# Altium footprint library Custom library.PcbLib: 80 footprints (part 2 of 5)
Each footprint in its own frame and in the unit in brackets; x right, y up, seen from the top. Pads: shape width x height; smd on the part's side, far side on the other; paste and mask are expansions set on the pad; w line width, h text height; cw(c..) or ccw(c..) is an arc to the next point about the centre after c.
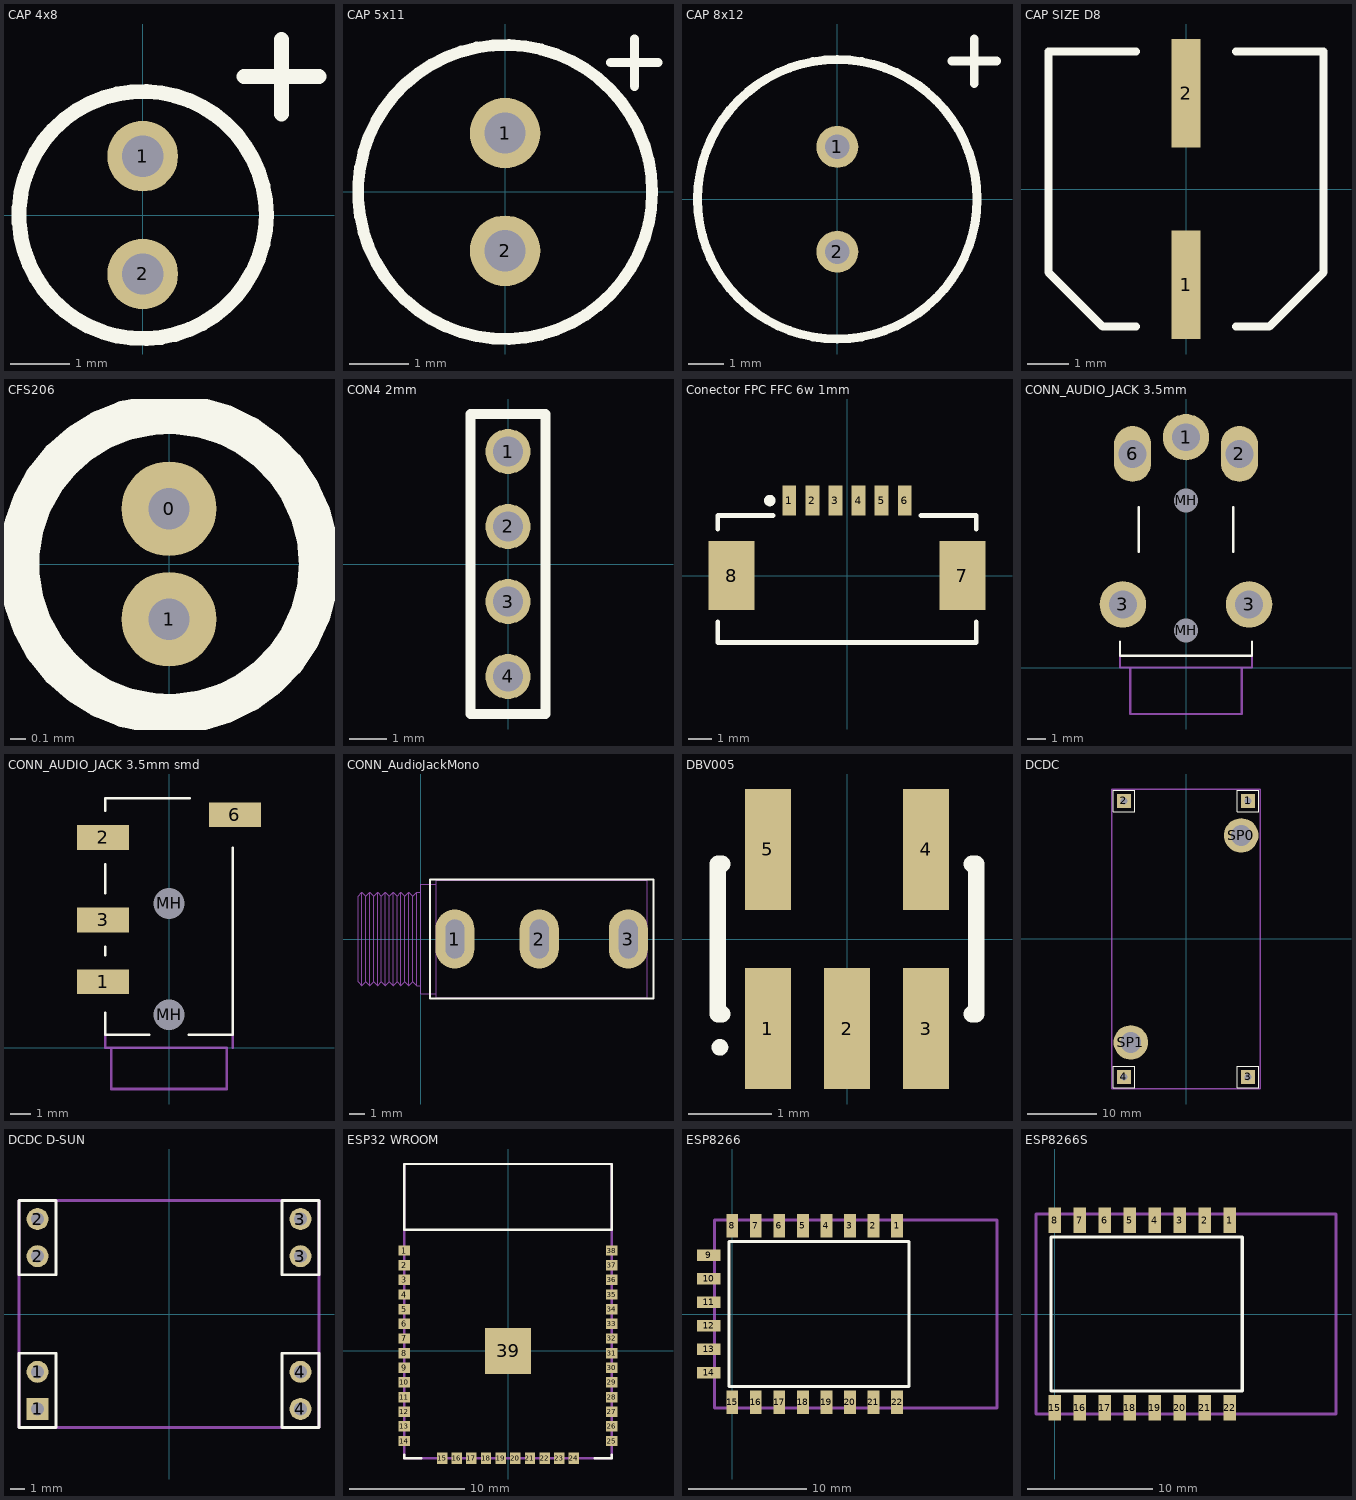
[diagram p1: the footprints below, top view; thin cyan lines are the x and y axes]

## CAP 4x8 [mm] "ECAP P2"
pads (2):
  round 1.2 hole 0.7: 1(0,1) 2(0,-1)
Top Overlay:
  circle w0.254: c0,0 r2.1
  lines w0.254: 1.725,2.35 2.995,2.35 ; 2.36,1.715 2.36,2.985
3D body: height 8, standoff 0, extent -2.083,-2.096 2.1,2.096

## CAP 5x11 [mm] "ECAP P2"
pads (2):
  round 1.2 hole 0.7: 1(0,1) 2(0,-1)
Top Overlay:
  circle w0.2: c0,0 r2.5
  lines w0.16: 1.8,2.2 2.6,2.2 ; 2.2,1.8 2.2,2.6
3D body: height 12, standoff 0, extent -2.48,-2.495 2.5,2.495

## CAP 8x12 [mm] "ECAP P3"
pads (2):
  round 1.2 hole 0.7: 1(0,1.5) 2(0,-1.5)
Top Overlay:
  circle w0.254: c0,0 r4
  lines w0.254: 3.285,3.953 4.555,3.953 ; 3.92,3.318 3.92,4.588
3D body: height 12.5, standoff 0, extent -3.968,-3.992 4,3.992

## CAP SIZE D8 [mm]
pads (2):
  rect 0.7x2.6 smd: 1(0,-2.3) 2(0,2.3)
Top Overlay:
  lines w0.2: -1.2,-3.3 -2,-3.3 -3.3,-2 -3.3,3.3 -1.2,3.3 ; 1.2,-3.3 2,-3.3 3.3,-2 3.3,3.3 2.9,3.3 1.2,3.3
3D body: height 1, standoff 0, extent -3.3,-3.3 3.3,3.3
3D body: height 7.7, standoff 0, extent -3.274,-3.293 3.3,3.294

## CFS206 [mm] "Crystal 32.768kHz 3x8mm"
pads (2):
  round 0.6 hole 0.26: 0(0,0.35) 1(0,-0.35)
Top Overlay:
  circle w0.254: c0,0 r0.95

## CON4 2mm [mm] "Conector 2mm 4p"
pads (4):
  round 1.2 hole 0.8: 1(0,3) 2(0,1) 3(0,-1) 4(0,-3)
Top Overlay:
  lines w0.254: -1,-4 -1,4 1,4 1,-4 -1,-4

## Conector FPC FFC 6w 1mm [mm] "Conector chino"
pads (8):
  rect 0.6x1.3 smd: 1(-2.5,3.25) 2(-1.5,3.25) 3(-0.5,3.25) 4(0.5,3.25) 5(1.5,3.25) 6(2.5,3.25)
  rect 2x3 smd: 7(5,0) 8(-5,0)
Top Overlay:
  circle w0.25: c-3.346,3.25 r0.125
  lines w0.2: -5.6,-2 -5.6,-2.9 5.6,-2.9 5.6,-2 ; -5.6,2 -5.6,2.6 -3.196,2.6 ; 3.204,2.6 5.6,2.6 5.6,2
3D body: height 2.7, standoff 0.1, extent -5.95,-3 5.95,-1.9
3D body: height 2.6, standoff 0.1, extent -5.6,-1.9 5.6,2.6

## CONN_AUDIO_JACK 3.5mm [mm] "RS FC68125"
height 5
pads (7):
  round 2.5 hole 1.5: 1(0,12.4) 3(-3.4,3.4) 3(3.4,3.4)
  oval 2x3 hole 1.5: 2(2.875,11.5) 6(-2.875,11.5)
  round 1.2 hole 1.3 unplated: MH(0,2) MH(0,9)
Top Overlay:
  lines w0.127: -3.55,1.4 -3.55,0.635 3.55,0.635 3.55,1.4 ; -2.54,6.223 -2.54,8.636 ; 2.54,6.223 2.54,8.636
Mechanical 15:
  lines w0.127: -3.55,0.635 -3.55,0 3.55,0 3.55,0.635 ; -3,0 -3,-2.5 3,-2.5 3,0
3D body: height 5.99, standoff 0.01, extent -2.976,-2.5 3,0
3D body: height 6, standoff 0.1, extent -3.4,0 3.4,12.6

## CONN_AUDIO_JACK 3.5mm smd [mm] "generico"
height 5
pads (6):
  rect 2.5x1.2 smd: 1(-3.2,3.2) 2(-3.2,10.2) 3(-3.2,6.2) 6(3.2,11.3)
  round 1.2 hole 1.5 unplated: MH(0,1.6) MH(0,7)
Top Overlay:
  lines w0.127: -3.1,1.7 -3.1,0.635 -0.965,0.635 ; -3.1,4.5 -3.1,4.9 ; -3.1,7.5 -3.1,8.9 ; -3.1,11.5 -3.1,12.1 1,12.1 ; 0.965,0.635 3.1,0.635 3.1,9.7
Mechanical 15:
  lines w0.127: -3.1,0.635 -3.1,0 2.8,0 2.8,-2 -2.8,-2 -2.8,0 ; 3.1,0 3.1,0.635
3D body: height 5.79, standoff 0.21, extent -2.778,-2 2.8,0
3D body: height 5, standoff 0.1, extent -3.1,0 3.1,12.1

## CONN_AudioJackMono [mm] "CUI MJ-3502 3.5mm audio jack - mono"
height 11.3
pads (3):
  oval 2.5x3.8 hole 1.2 slot 2.5 at 90 deg: 1(2.2,0) 2(7.6,0) 3(13.3,0)
Top Overlay:
  lines w0.127: 0.6,-3.8 14.9,-3.8 14.9,3.8 0.6,3.8 0.6,-3.8
Mechanical 13:
  lines w0.05: 0,-3 -0.25,-3 ; 0,3 -0.25,3 ; 1,-3.5 0,-3.5 0,3.5 1,3.5 ; -3.75,-3 -3.75,3 ; -3.75,-3 -3.5,-2.75 ; -3.75,-3 -4,-2.75 -4,2.75 -3.75,3 ; -3.75,3 -3.5,2.75 ; -3.5,-2.75 -3.5,2.75 ; -3.5,-2.75 -3.25,-3 ; -3.5,2.75 -3.25,3 ; -3.25,-3 -3.25,3 ; -3.25,-3 -3,-2.75 ; -3.25,3 -3,2.75 ; -3,-2.75 -3,2.75 ; -3,-2.75 -2.75,-3 ; -3,2.75 -2.75,3 ; -2.75,-3 -2.75,3 ; -2.75,-3 -2.5,-2.75 ; -2.75,3 -2.5,2.75 ; -2.5,-2.75 -2.5,2.75 ; -2.5,-2.75 -2.25,-3 ; -2.5,2.75 -2.25,3 ; -2.25,-3 -2.25,3 ; -2.25,-3 -2,-2.75 ; -2.25,3 -2,2.75 ; -2,-2.75 -2,2.75 ; -2,-2.75 -1.75,-3 ; -2,2.75 -1.75,3 ; -1.75,-3 -1.75,3 ; -1.75,-3 -1.5,-2.75 ; -1.75,3 -1.5,2.75 ; -1.5,-2.75 -1.5,2.75 ; -1.5,-2.75 -1.25,-3 ; -1.5,2.75 -1.25,3 ; -1.25,-3 -1.25,3 ; -1.25,-3 -1,-2.75 ; -1.25,3 -1,2.75 ; -1,-2.75 -1,2.75 ; -1,-2.75 -0.75,-3 ; -1,2.75 -0.75,3 ; -0.75,-3 -0.75,3 ; -0.75,-3 -0.5,-2.75 ; -0.75,3 -0.5,2.75 ; -0.5,-2.75 -0.5,2.75 ; -0.5,-2.75 -0.25,-3 ; -0.5,2.75 -0.25,3 ; -0.25,-3 -0.25,3 ; 1,-3.75 1,3.75 14.5,3.75 14.5,-3.75 1,-3.75
3D body: height 11.3, standoff -4.1, extent -4,-3.75 14.5,3.75

## DBV005 [mm] "SOT-23/SC-74A; 5 Leads; Body 3 x 3 mm, inc. leads (LxW max)"
height 1.45
pads (5):
  rect 0.55x1.45 smd: 1(-0.95,-1.075) 2(0,-1.075) 3(0.95,-1.075) 4(0.95,1.075) 5(-0.95,1.075)
Top Overlay:
  circle w0.1: c-1.525,-1.3 r0.05
  lines w0.2: -1.5,-0.9 -1.55,-0.9 -1.55,0.9 -1.5,0.9 ; 1.5,-0.9 1.55,-0.9 1.55,0.9 1.5,0.9

## DCDC [mm] "Regulador ajustable DCDC"
pads (6):
  rect 2x2 hole 1: 1(9,20) 2(-9,20) 3(9,-20) 4(-9,-20)
  round 5 hole 3: SP0(8,15) SP1(-8,-15)
Top Overlay:
  lines w0.1: -10.57,-21.57 -10.57,-18.45 -7.42,-18.45 -7.42,-21.57 -10.57,-21.57 ; -10.57,18.43 -7.42,18.43 -7.42,21.55 -10.57,21.55 -10.57,18.43 ; 7.43,-21.57 7.43,-18.45 10.58,-18.45 10.58,-21.57 7.43,-21.57 ; 7.43,18.43 7.43,21.55 10.58,21.55 10.58,18.43 7.43,18.43
Mechanical 13:
  lines w0.2: -10.75,-21.75 -10.75,21.73 10.75,21.73 10.75,-21.75 -10.75,-21.75

## DCDC D-SUN [mm] "Regulator"
pads (8):
  rect 1.5x1.5 hole 0.9: 1(-9,-6.5)
  round 1.5 hole 0.9: 1(-9,-3.96) 2(-9,3.96) 2(-9,6.5) 3(9,3.96) 3(9,6.5) 4(9,-6.5) 4(9,-3.96)
Top Overlay:
  lines w0.2: -10.27,-7.77 -10.27,-2.69 -7.73,-2.69 -7.73,-7.77 -10.27,-7.77 ; -10.27,2.69 -10.27,7.77 -7.73,7.77 -7.73,2.69 -10.27,2.69 ; 7.73,-7.77 7.73,-2.69 10.27,-2.69 10.27,-7.77 7.73,-7.77 ; 7.73,2.69 7.73,7.77 10.27,7.77 10.27,2.69 7.73,2.69
Mechanical 1:
  lines w0.2: -10.27,-7.77 -10.27,7.77 10.27,7.77 10.27,-7.77 -10.27,-7.77

## ESP32 WROOM [mm] "ESP WROOM32"
height 3
pads (39):
  rect 1x0.9 smd: 1(-9,8.7) 2(-9,7.43) 3(-9,6.16) 4(-9,4.89) 5(-9,3.62) 6(-9,2.35) 7(-9,1.08) 8(-9,-0.19) 9(-9,-1.46) 10(-9,-2.73) 11(-9,-4) 12(-9,-5.27) 13(-9,-6.54) 14(-9,-7.81) 25(9,-7.81) 26(9,-6.54) 27(9,-5.27) 28(9,-4) 29(9,-2.73) 30(9,-1.46) 31(9,-0.19) 32(9,1.08) 33(9,2.35) 34(9,3.62) 35(9,4.89) 36(9,6.16) 37(9,7.43) 38(9,8.7)
  rect 0.9x1 smd: 15(-5.715,-9.3) 16(-4.445,-9.3) 17(-3.175,-9.3) 18(-1.905,-9.3) 19(-0.635,-9.3) 20(0.635,-9.3) 21(1.905,-9.3) 22(3.175,-9.3) 23(4.445,-9.3) 24(5.715,-9.3)
  rect 4x4 smd: 39(0,0)
Top Overlay:
  lines w0.2: -9,-9 -9,-9.3 -7.5,-9.3 ; 7.5,-9.3 9,-9.3 9,-9 ; -9,10.5 9,10.5 9,16.2 -9,16.2 -9,10.5
Mechanical 13:
  lines w0.2: -9,-9.3 9,-9.3 9,16.2 -9,16.2 -9,-9.3
3D body: height 3, standoff -0.04, extent -9.035,-9.34 9.035,16.2

## ESP8266 [mm] "Modulo wifi Adafruit"
height 3
pads (22):
  rect 1x2 smd: 1(14,7.5) 2(12,7.5) 3(10,7.5) 4(8,7.5) 5(6,7.5) 6(4,7.5) 7(2,7.5) 8(0,7.5) 15(0,-7.5) 16(2,-7.5) 17(4,-7.5) 18(6,-7.5) 19(8,-7.5) 20(10,-7.5) 21(12,-7.5) 22(14,-7.5)
  rect 2x1 smd: 9(-2,5) 10(-2,3) 11(-2,1) 12(-2,-1) 13(-2,-3) 14(-2,-5)
Top Overlay:
  lines w0.254: -0.3,-6.15 -0.3,6.15 15,6.15 15,-6.15 -0.3,-6.15
Mechanical 13:
  lines w0.254: -1.5,-8 22.5,-8 22.5,8 -1.5,8 -1.5,-8

## ESP8266S [mm] "Modulo wifi Adafruit version S"
height 3
pads (16):
  rect 1x2 smd: 1(14,7.5) 2(12,7.5) 3(10,7.5) 4(8,7.5) 5(6,7.5) 6(4,7.5) 7(2,7.5) 8(0,7.5) 15(0,-7.5) 16(2,-7.5) 17(4,-7.5) 18(6,-7.5) 19(8,-7.5) 20(10,-7.5) 21(12,-7.5) 22(14,-7.5)
Top Overlay:
  lines w0.254: -0.3,-6.15 -0.3,6.15 15,6.15 15,-6.15 -0.3,-6.15
Mechanical 13:
  lines w0.254: -1.5,-8 22.5,-8 22.5,8 -1.5,8 -1.5,-8